# Altium schematic symbol library ST8R00WPUR.SchLib: 1 symbol
Pins are listed as number, name and electrical type; pins without a type are passive.

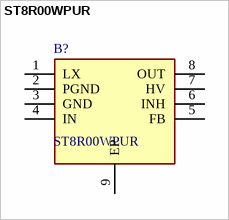
[diagram p0: symbol ST8R00WPUR]

## ST8R00WPUR
designator B?
Conv DC-DC 4V to 6V Step Up Single-Out 6V to 12V 1A 8-Pin DFN T/R; Manufacturer_Name: STMicroelectronics; Geometry.Height: 1mm; Mouser Part Number: 511-ST8R00WPUR; Mouser Price/Stock: https://www.mouser.co.uk/ProductDetail/STMicroelectronics/ST8R00WPUR?qs=VJaATVMq%252BXrX32beJDbIZA%3D%3D; Manufacturer_Part_Number: ST8R00WPUR; Datasheet Link: https://www.st.com/resource/en/datasheet/st8r00.pdf
footprint SON80P400X400X100-9N
pins: 1 LX, 2 PGND, 3 GND, 4 IN, 5 FB, 6 INH, 7 HV, 8 OUT, 9 EP